# EAGLE library part 750811647 (library derek)
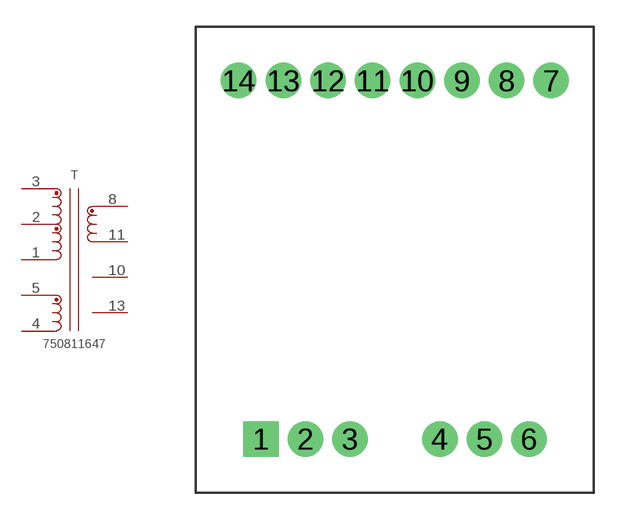
[diagram p3: symbol with the pads of 750811647; footprint 750811647]

Designator prefix T

## 750811647 (DATASHEET_URL: https://katalog.we-online.com/ctm/datasheet/750811647.pdf; MANUFACTURER: Wurth Electronics Midcom; PART_NUMBER: 750811647)  [750811647]
1  1
2  2
3  3
4  4
5  5
8  8
10  10
11  11
13  13

## Footprint 750811647 (pad centres in mm)
drill 1.32 square: 1 -7.48,-10
drill 1.32: 2 -4.99,-10; 3 -2.5,-10; 4 2.5,-10; 5 4.99,-10; 6 7.48,-10; 7 8.715,10; 8 6.225,10; 9 3.735,10; 10 1.245,10; 11 -1.245,10; 12 -3.735,10; 13 -6.225,10; 14 -8.715,10